# Altium footprint library Logo.PcbLib: 6 footprints
Each footprint in its own frame and in the unit in brackets; x right, y up, seen from the top. Pads: shape width x height; smd on the part's side, far side on the other; paste and mask are expansions set on the pad; w line width, h text height; cw(c..) or ccw(c..) is an arc to the next point about the centre after c.
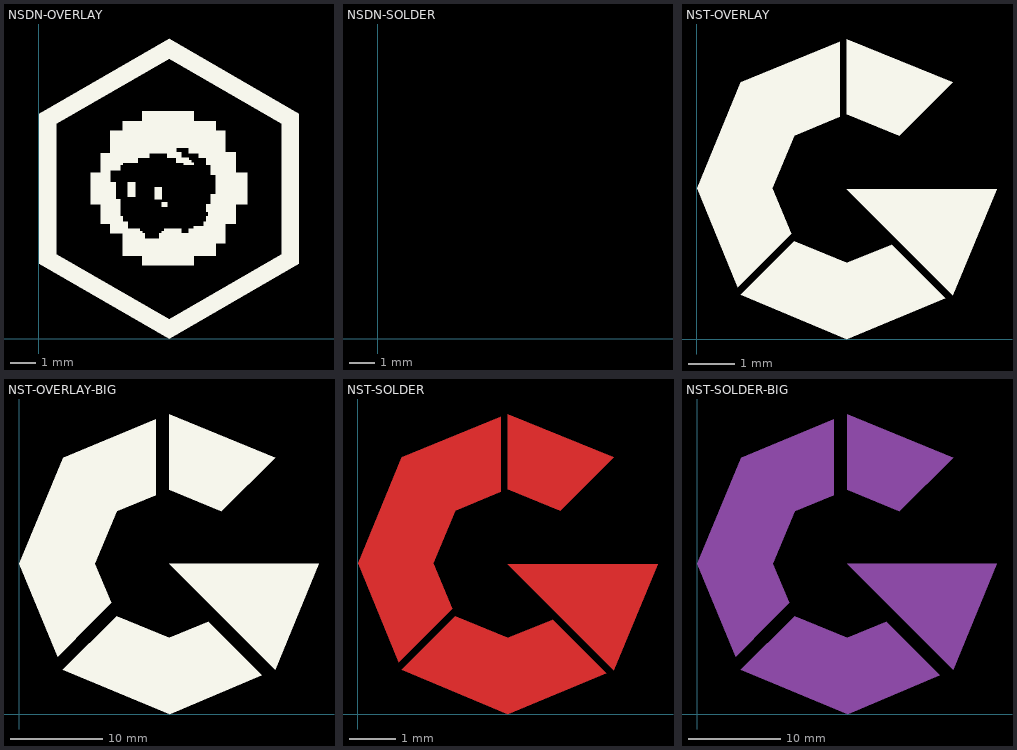
[diagram p0: the footprints below, top view; thin cyan lines are the x and y axes]

## NSDN-OVERLAY [mm]
Top Overlay:
  drawing of 20 lines, arcs and shapes, not listed

## NSDN-SOLDER [mm]
Top Overlay:
  pour cut-out: 10.135,8.763
  region: 5.08,11.659
  pour cut-out: 6.452,10.592
  pour cut-out: 6.274,10.668
  region: 2.845,5.512
  region: 6.604,4.953
Top Solder:
  drawing of 14 lines, arcs and shapes, not listed

## NST-OVERLAY [mm]
Top Layer:
  region: 4.204,0.953
  region: 4.369,0.813
  region: 3.251,3.251
  region: 4.877,3.251
  region: 4.851,3.251
Top Overlay:
  region: 5.388,0.885 3.251,0 0.96,0.96 2.116,2.116 3.251,1.651 4.231,2.043
  region: 3.251,3.251 6.502,3.251 5.55,0.953
  region: 3.251,6.502 5.55,5.563 4.394,4.407 3.251,4.877
  region: 2.048,2.277 0.893,1.122 0.013,3.264 0.96,5.563 3.099,6.44 3.099,4.814 2.116,4.407 1.638,3.264

## NST-OVERLAY-BIG [mm]
Top Overlay:
  region: 20.498,10.008 26.314,4.191 16.332,0 4.75,4.801 10.566,10.617 16.256,8.255
  region: 16.256,16.281 27.762,4.775 32.512,16.281
  region: 27.762,27.788 21.946,21.971 16.256,24.333 16.256,32.537
  region: 9.982,12.04 8.103,10.16 4.166,6.223 0,16.281 4.775,27.788 14.834,31.953 14.834,23.724 10.566,21.971 8.23,16.281

## NST-SOLDER [mm]
Top Layer:
  region: 4.851,3.251
  region: 4.877,3.251
  region: 3.251,3.251
  region: 3.251,3.251 6.502,3.251 5.55,0.953
  region: 4.369,0.813
  region: 4.204,0.953
  region: 5.388,0.885 3.251,0 0.96,0.96 2.116,2.116 3.251,1.651 4.231,2.043
  region: 2.048,2.277 0.893,1.122 0.013,3.264 0.96,5.563 3.099,6.44 3.099,4.814 2.116,4.407 1.638,3.264
  region: 3.251,6.502 5.55,5.563 4.394,4.407 3.251,4.877

## NST-SOLDER-BIG [mm]
Top Solder:
  region: 27.762,27.788 21.946,21.971 16.256,24.333 16.256,32.537
  region: 16.256,16.281 27.762,4.775 32.512,16.281
  region: 20.498,10.008 26.314,4.191 16.332,0 4.75,4.801 10.566,10.617 16.256,8.255
  region: 9.982,12.04 8.103,10.16 4.166,6.223 0,16.281 4.775,27.788 14.834,31.953 14.834,23.724 10.566,21.971 8.23,16.281